# Altium schematic symbol library CC0402KRX5R6BB824.SchLib: 1 symbol
Pins are listed as number, name and electrical type; pins without a type are passive.

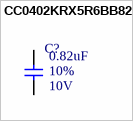
[diagram p0: symbol CC0402KRX5R6BB824]

## CC0402KRX5R6BB824
designator C?  Rated Voltage: 10V  Tolerance: 10%  Capacitence: 0.82uF  (hidden comment: CC0402KRX5R6BB824)
CAP CER 0.82UF 10V X5R 0402; MFR: Yageo; PN: CC0402KRX5R6BB824; ComponentLink1Description: Datasheet; ComponentLink1URL: https://www.mouser.com/datasheet/2/447/yago_s_a0006851646_1-2287040.pdf; Temperature Coefficient: X5R; Package: 0402; Footprint: C0402; Supplier 1: Mouser; Supplier Part Number 1: 603-CC0402KR6BB824
footprint C0402 (A generic C0402 footprint)
pins: 1, 2